# Altium footprint library WANGYU92100PcbLib.PcbLib: 392 footprints (part 7 of 25)
Each footprint in its own frame and in the unit in brackets; x right, y up, seen from the top. Pads: shape width x height; smd on the part's side, far side on the other; paste and mask are expansions set on the pad; w line width, h text height; cw(c..) or ccw(c..) is an arc to the next point about the centre after c.
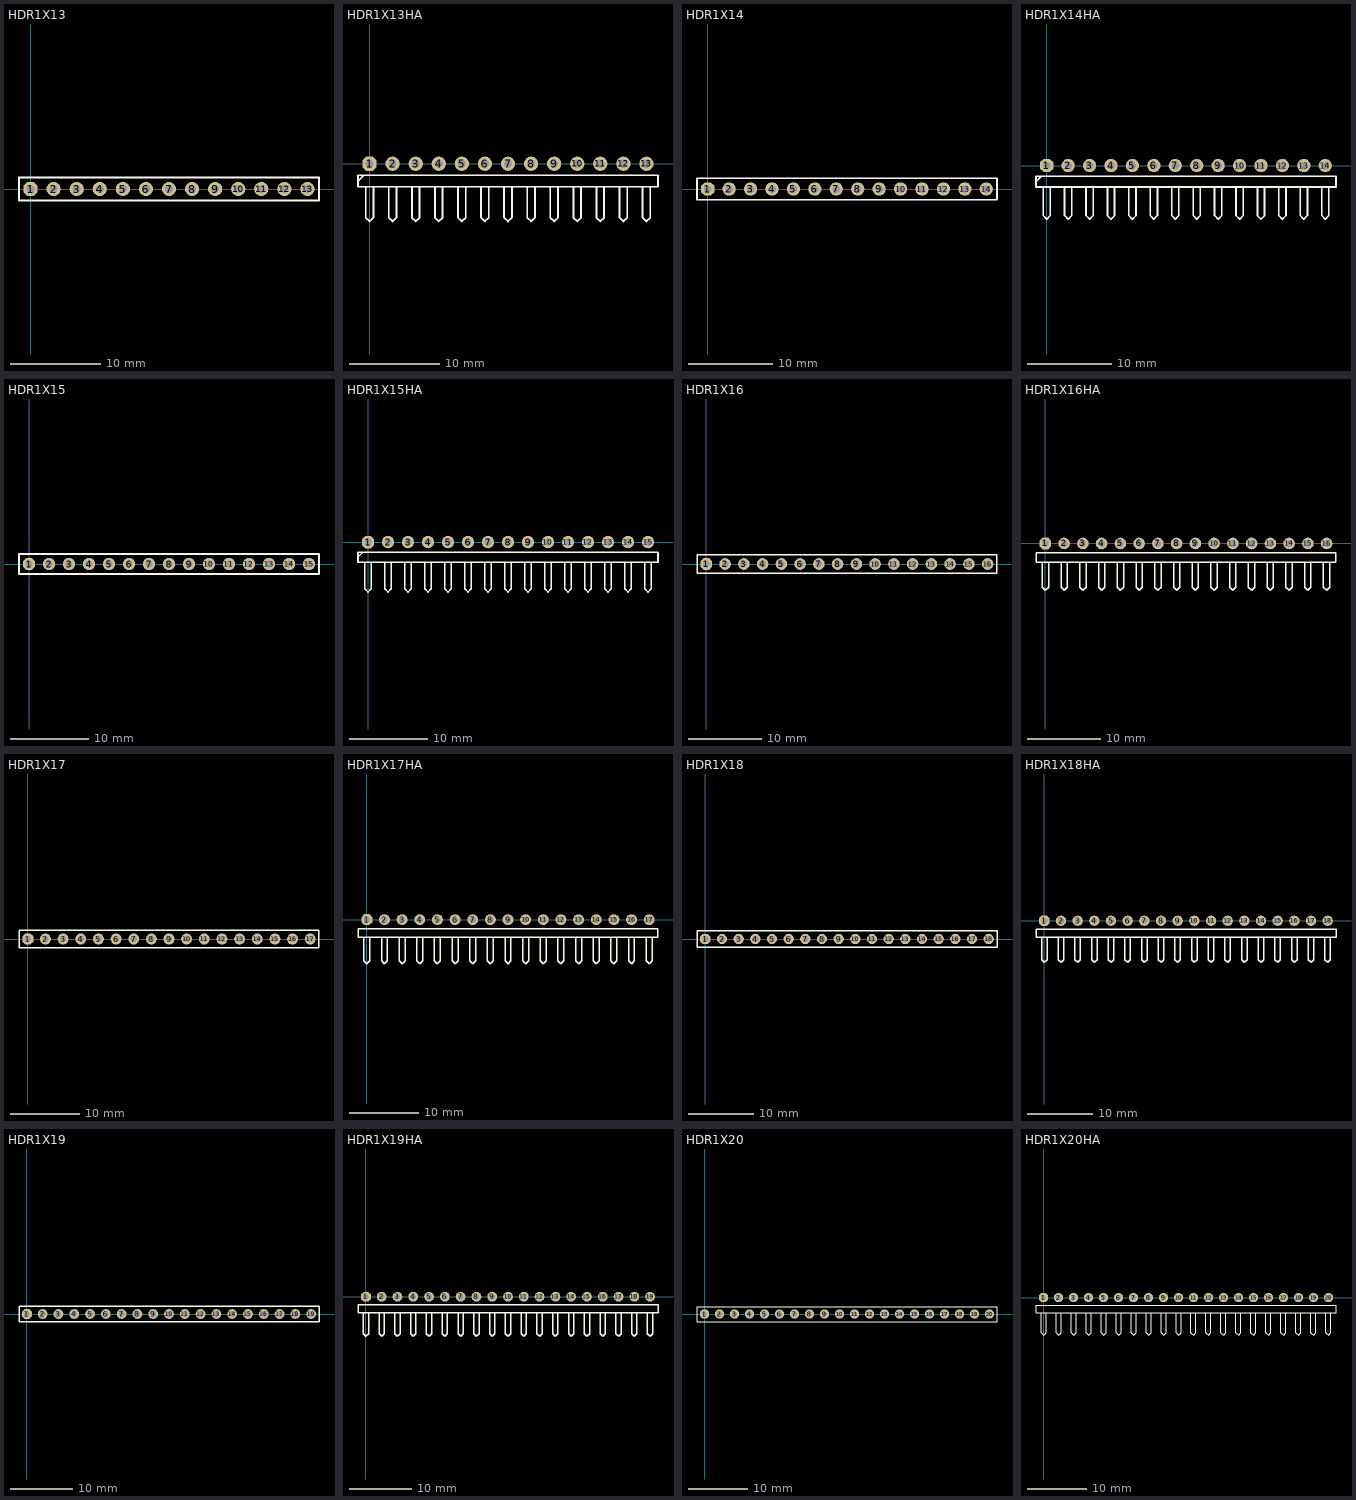
[diagram p6: the footprints below, top view; thin cyan lines are the x and y axes]

## HDR1X13 [mil]
pads (13):
  oct 62x62 hole 35: 1(0,0)
  round 62 hole 35: 2(100,0) 3(200,0) 4(300,0) 5(400,0) 6(500,0) 7(600,0) 8(700,0) 9(800,0) 10(900,0) 11(1000,0) 12(1100,0) 13(1200,0)
Top Overlay:
  lines w8: -50,-50 1250,-50 1250,50 25,50 -50,50 -50,-50

## HDR1X13HA [mil]
pads (13):
  oct 62x62 hole 35: 1(0,0)
  round 62 hole 35: 2(100,0) 3(200,0) 4(300,0) 5(400,0) 6(500,0) 7(600,0) 8(700,0) 9(800,0) 10(900,0) 11(1000,0) 12(1100,0) 13(1200,0)
Top Overlay:
  lines w8: -50,-75 -25,-50 ; -16.67,-100 -16.67,-233.33 0,-250 16.67,-233.33 16.67,-100 ; 83.33,-100 83.33,-233.33 100,-250 116.67,-233.33 116.67,-100 ; 183.33,-100 183.33,-233.33 200,-250 216.67,-233.33 216.67,-100 ; 283.33,-100 283.33,-233.33 300,-250 316.67,-233.33 316.67,-100 ; 383.33,-100 383.33,-233.33 400,-250 416.67,-233.33 416.67,-100 ; 483.33,-100 483.33,-233.33 500,-250 516.67,-233.33 516.67,-100 ; 583.33,-100 583.33,-233.33 600,-250 616.67,-233.33 616.67,-100 ; 683.33,-100 683.33,-233.33 700,-250 716.67,-233.33 716.67,-100 ; 783.33,-100 783.33,-233.33 800,-250 816.67,-233.33 816.67,-100 ; 883.33,-100 883.33,-233.33 900,-250 916.67,-233.33 916.67,-100 ; 983.33,-100 983.33,-233.33 1000,-250 1016.67,-233.33 1016.67,-100 ; 1083.33,-100 1083.33,-233.33 1100,-250 1116.67,-233.33 1116.67,-100 ; 1183.33,-100 1183.33,-233.33 1200,-250 1216.67,-233.33 1216.67,-100 ; -50,-100 -50,-50 25,-50 1250,-50 1250,-100 -50,-100

## HDR1X14 [mil]
pads (14):
  oct 62x62 hole 35: 1(0,0)
  round 62 hole 35: 2(100,0) 3(200,0) 4(300,0) 5(400,0) 6(500,0) 7(600,0) 8(700,0) 9(800,0) 10(900,0) 11(1000,0) 12(1100,0) 13(1200,0) 14(1300,0)
Top Overlay:
  lines w8: -50,-50 1350,-50 1350,50 25,50 -50,50 -50,-50

## HDR1X14HA [mil]
pads (14):
  oct 62x62 hole 35: 1(0,0)
  round 62 hole 35: 2(100,0) 3(200,0) 4(300,0) 5(400,0) 6(500,0) 7(600,0) 8(700,0) 9(800,0) 10(900,0) 11(1000,0) 12(1100,0) 13(1200,0) 14(1300,0)
Top Overlay:
  lines w8: -50,-75 -25,-50 ; -16.67,-100 -16.67,-233.33 0,-250 16.67,-233.33 16.67,-100 ; 83.33,-100 83.33,-233.33 100,-250 116.67,-233.33 116.67,-100 ; 183.33,-100 183.33,-233.33 200,-250 216.67,-233.33 216.67,-100 ; 283.33,-100 283.33,-233.33 300,-250 316.67,-233.33 316.67,-100 ; 383.33,-100 383.33,-233.33 400,-250 416.67,-233.33 416.67,-100 ; 483.33,-100 483.33,-233.33 500,-250 516.67,-233.33 516.67,-100 ; 583.33,-100 583.33,-233.33 600,-250 616.67,-233.33 616.67,-100 ; 683.33,-100 683.33,-233.33 700,-250 716.67,-233.33 716.67,-100 ; 783.33,-100 783.33,-233.33 800,-250 816.67,-233.33 816.67,-100 ; 883.33,-100 883.33,-233.33 900,-250 916.67,-233.33 916.67,-100 ; 983.33,-100 983.33,-233.33 1000,-250 1016.67,-233.33 1016.67,-100 ; 1083.33,-100 1083.33,-233.33 1100,-250 1116.67,-233.33 1116.67,-100 ; 1183.33,-100 1183.33,-233.33 1200,-250 1216.67,-233.33 1216.67,-100 ; 1283.33,-100 1283.33,-233.33 1300,-250 1316.67,-233.33 1316.67,-100 ; -50,-100 1350,-100 1350,-50 25,-50 -50,-50 -50,-100

## HDR1X15 [mil]
pads (15):
  oct 62x62 hole 35: 1(0,0)
  round 62 hole 35: 2(100,0) 3(200,0) 4(300,0) 5(400,0) 6(500,0) 7(600,0) 8(700,0) 9(800,0) 10(900,0) 11(1000,0) 12(1100,0) 13(1200,0) 14(1300,0) 15(1400,0)
Top Overlay:
  lines w8: -50,-50 1450,-50 1450,50 25,50 -50,50 -50,-50

## HDR1X15HA [mil]
pads (15):
  oct 62x62 hole 35: 1(0,0)
  round 62 hole 35: 2(100,0) 3(200,0) 4(300,0) 5(400,0) 6(500,0) 7(600,0) 8(700,0) 9(800,0) 10(900,0) 11(1000,0) 12(1100,0) 13(1200,0) 14(1300,0) 15(1400,0)
Top Overlay:
  lines w8: -50,-75 -25,-50 ; -16.67,-100 -16.67,-233.33 0,-250 16.67,-233.33 16.67,-100 ; 83.33,-100 83.33,-233.33 100,-250 116.67,-233.33 116.67,-100 ; 183.33,-100 183.33,-233.33 200,-250 216.67,-233.33 216.67,-100 ; 283.33,-100 283.33,-233.33 300,-250 316.67,-233.33 316.67,-100 ; 383.33,-100 383.33,-233.33 400,-250 416.67,-233.33 416.67,-100 ; 483.33,-100 483.33,-233.33 500,-250 516.67,-233.33 516.67,-100 ; 583.33,-100 583.33,-233.33 600,-250 616.67,-233.33 616.67,-100 ; 683.33,-100 683.33,-233.33 700,-250 716.67,-233.33 716.67,-100 ; 783.33,-100 783.33,-233.33 800,-250 816.67,-233.33 816.67,-100 ; 883.33,-100 883.33,-233.33 900,-250 916.67,-233.33 916.67,-100 ; 983.33,-100 983.33,-233.33 1000,-250 1016.67,-233.33 1016.67,-100 ; 1083.33,-100 1083.33,-233.33 1100,-250 1116.67,-233.33 1116.67,-100 ; 1183.33,-100 1183.33,-233.33 1200,-250 1216.67,-233.33 1216.67,-100 ; 1283.33,-100 1283.33,-233.33 1300,-250 1316.67,-233.33 1316.67,-100 ; 1383.33,-100 1383.33,-233.33 1400,-250 1416.67,-233.33 1416.67,-100 ; -50,-100 1450,-100 1450,-50 25,-50 -50,-50 -50,-100

## HDR1X16 [mil]
pads (16):
  oct 62x62 hole 35: 1(0,0)
  round 62 hole 35: 2(100,0) 3(200,0) 4(300,0) 5(400,0) 6(500,0) 7(600,0) 8(700,0) 9(800,0) 10(900,0) 11(1000,0) 12(1100,0) 13(1200,0) 14(1300,0) 15(1400,0) 16(1500,0)
Top Overlay:
  lines w8: -50,-50 -50,50 25,50 1550,50 1550,-50 -50,-50

## HDR1X16HA [mil]
pads (16):
  oct 62x62 hole 35: 1(0,0)
  round 62 hole 35: 2(100,0) 3(200,0) 4(300,0) 5(400,0) 6(500,0) 7(600,0) 8(700,0) 9(800,0) 10(900,0) 11(1000,0) 12(1100,0) 13(1200,0) 14(1300,0) 15(1400,0) 16(1500,0)
Top Overlay:
  lines w8: -16.67,-100 -16.67,-233.33 0,-250 16.67,-233.33 16.67,-100 ; 83.33,-100 83.33,-233.33 100,-250 116.67,-233.33 116.67,-100 ; 183.33,-100 183.33,-233.33 200,-250 216.67,-233.33 216.67,-100 ; 283.33,-100 283.33,-233.33 300,-250 316.67,-233.33 316.67,-100 ; 383.33,-100 383.33,-233.33 400,-250 416.67,-233.33 416.67,-100 ; 483.33,-100 483.33,-233.33 500,-250 516.67,-233.33 516.67,-100 ; 583.33,-100 583.33,-233.33 600,-250 616.67,-233.33 616.67,-100 ; 683.33,-100 683.33,-233.33 700,-250 716.67,-233.33 716.67,-100 ; 783.33,-100 783.33,-233.33 800,-250 816.67,-233.33 816.67,-100 ; 883.33,-100 883.33,-233.33 900,-250 916.67,-233.33 916.67,-100 ; 983.33,-100 983.33,-233.33 1000,-250 1016.67,-233.33 1016.67,-100 ; 1083.33,-100 1083.33,-233.33 1100,-250 1116.67,-233.33 1116.67,-100 ; 1183.33,-100 1183.33,-233.33 1200,-250 1216.67,-233.33 1216.67,-100 ; 1283.33,-100 1283.33,-233.33 1300,-250 1316.67,-233.33 1316.67,-100 ; 1383.33,-100 1383.33,-233.33 1400,-250 1416.67,-233.33 1416.67,-100 ; 1483.33,-100 1483.33,-233.33 1500,-250 1516.67,-233.33 1516.67,-100 ; -50,-100 1550,-100 1550,-50 25,-50 -50,-50 -50,-100

## HDR1X17 [mil]
pads (17):
  oct 62x62 hole 35: 1(0,0)
  round 62 hole 35: 2(100,0) 3(200,0) 4(300,0) 5(400,0) 6(500,0) 7(600,0) 8(700,0) 9(800,0) 10(900,0) 11(1000,0) 12(1100,0) 13(1200,0) 14(1300,0) 15(1400,0) 16(1500,0) 17(1600,0)
Top Overlay:
  lines w8: -50,-50 1650,-50 1650,50 25,50 -50,50 -50,-50

## HDR1X17HA [mil]
pads (17):
  oct 62x62 hole 35: 1(0,0)
  round 62 hole 35: 2(100,0) 3(200,0) 4(300,0) 5(400,0) 6(500,0) 7(600,0) 8(700,0) 9(800,0) 10(900,0) 11(1000,0) 12(1100,0) 13(1200,0) 14(1300,0) 15(1400,0) 16(1500,0) 17(1600,0)
Top Overlay:
  lines w8: -16.67,-100 -16.67,-233.33 0,-250 16.67,-233.33 16.67,-100 ; 83.33,-100 83.33,-233.33 100,-250 116.67,-233.33 116.67,-100 ; 183.33,-100 183.33,-233.33 200,-250 216.67,-233.33 216.67,-100 ; 283.33,-100 283.33,-233.33 300,-250 316.67,-233.33 316.67,-100 ; 383.33,-100 383.33,-233.33 400,-250 416.67,-233.33 416.67,-100 ; 483.33,-100 483.33,-233.33 500,-250 516.67,-233.33 516.67,-100 ; 583.33,-100 583.33,-233.33 600,-250 616.67,-233.33 616.67,-100 ; 683.33,-100 683.33,-233.33 700,-250 716.67,-233.33 716.67,-100 ; 783.33,-100 783.33,-233.33 800,-250 816.67,-233.33 816.67,-100 ; 883.33,-100 883.33,-233.33 900,-250 916.67,-233.33 916.67,-100 ; 983.33,-100 983.33,-233.33 1000,-250 1016.67,-233.33 1016.67,-100 ; 1083.33,-100 1083.33,-233.33 1100,-250 1116.67,-233.33 1116.67,-100 ; 1183.33,-100 1183.33,-233.33 1200,-250 1216.67,-233.33 1216.67,-100 ; 1283.33,-100 1283.33,-233.33 1300,-250 1316.67,-233.33 1316.67,-100 ; 1383.33,-100 1383.33,-233.33 1400,-250 1416.67,-233.33 1416.67,-100 ; 1483.33,-100 1483.33,-233.33 1500,-250 1516.67,-233.33 1516.67,-100 ; 1583.33,-100 1583.33,-233.33 1600,-250 1616.67,-233.33 1616.67,-100 ; -50,-100 -50,-50 25,-50 1650,-50 1650,-100 -50,-100

## HDR1X18 [mil]
pads (18):
  oct 62x62 hole 35: 1(0,0)
  round 62 hole 35: 2(100,0) 3(200,0) 4(300,0) 5(400,0) 6(500,0) 7(600,0) 8(700,0) 9(800,0) 10(900,0) 11(1000,0) 12(1100,0) 13(1200,0) 14(1300,0) 15(1400,0) 16(1500,0) 17(1600,0) 18(1700,0)
Top Overlay:
  lines w8: -50,-50 1750,-50 1750,50 25,50 -50,50 -50,-50

## HDR1X18HA [mil]
pads (18):
  oct 62x62 hole 35: 1(0,0)
  round 62 hole 35: 2(100,0) 3(200,0) 4(300,0) 5(400,0) 6(500,0) 7(600,0) 8(700,0) 9(800,0) 10(900,0) 11(1000,0) 12(1100,0) 13(1200,0) 14(1300,0) 15(1400,0) 16(1500,0) 17(1600,0) 18(1700,0)
Top Overlay:
  lines w8: -16.67,-100 -16.67,-233.33 0,-250 16.67,-233.33 16.67,-100 ; 83.33,-100 83.33,-233.33 100,-250 116.67,-233.33 116.67,-100 ; 183.33,-100 183.33,-233.33 200,-250 216.67,-233.33 216.67,-100 ; 283.33,-100 283.33,-233.33 300,-250 316.67,-233.33 316.67,-100 ; 383.33,-100 383.33,-233.33 400,-250 416.67,-233.33 416.67,-100 ; 483.33,-100 483.33,-233.33 500,-250 516.67,-233.33 516.67,-100 ; 583.33,-100 583.33,-233.33 600,-250 616.67,-233.33 616.67,-100 ; 683.33,-100 683.33,-233.33 700,-250 716.67,-233.33 716.67,-100 ; 783.33,-100 783.33,-233.33 800,-250 816.67,-233.33 816.67,-100 ; 883.33,-100 883.33,-233.33 900,-250 916.67,-233.33 916.67,-100 ; 983.33,-100 983.33,-233.33 1000,-250 1016.67,-233.33 1016.67,-100 ; 1083.33,-100 1083.33,-233.33 1100,-250 1116.67,-233.33 1116.67,-100 ; 1183.33,-100 1183.33,-233.33 1200,-250 1216.67,-233.33 1216.67,-100 ; 1283.33,-100 1283.33,-233.33 1300,-250 1316.67,-233.33 1316.67,-100 ; 1383.33,-100 1383.33,-233.33 1400,-250 1416.67,-233.33 1416.67,-100 ; 1483.33,-100 1483.33,-233.33 1500,-250 1516.67,-233.33 1516.67,-100 ; 1583.33,-100 1583.33,-233.33 1600,-250 1616.67,-233.33 1616.67,-100 ; 1683.33,-100 1683.33,-233.33 1700,-250 1716.67,-233.33 1716.67,-100 ; -50,-100 -50,-50 25,-50 1750,-50 1750,-100 -50,-100

## HDR1X19 [mil]
pads (19):
  oct 62x62 hole 35: 1(0,0)
  round 62 hole 35: 2(100,0) 3(200,0) 4(300,0) 5(400,0) 6(500,0) 7(600,0) 8(700,0) 9(800,0) 10(900,0) 11(1000,0) 12(1100,0) 13(1200,0) 14(1300,0) 15(1400,0) 16(1500,0) 17(1600,0) 18(1700,0) 19(1800,0)
Top Overlay:
  lines w8: 1475,50 1483.33,50 ; -50,-50 1850,-50 1850,50 25,50 -50,50 -50,-50

## HDR1X19HA [mil]
pads (19):
  oct 62x62 hole 35: 1(0,0)
  round 62 hole 35: 2(100,0) 3(200,0) 4(300,0) 5(400,0) 6(500,0) 7(600,0) 8(700,0) 9(800,0) 10(900,0) 11(1000,0) 12(1100,0) 13(1200,0) 14(1300,0) 15(1400,0) 16(1500,0) 17(1600,0) 18(1700,0) 19(1800,0)
Top Overlay:
  lines w8: -16.67,-100 -16.67,-233.33 0,-250 16.67,-233.33 16.67,-100 ; 83.33,-100 83.33,-233.33 100,-250 116.67,-233.33 116.67,-100 ; 183.33,-100 183.33,-233.33 200,-250 216.67,-233.33 216.67,-100 ; 283.33,-100 283.33,-233.33 300,-250 316.67,-233.33 316.67,-100 ; 383.33,-100 383.33,-233.33 400,-250 416.67,-233.33 416.67,-100 ; 483.33,-100 483.33,-233.33 500,-250 516.67,-233.33 516.67,-100 ; 583.33,-100 583.33,-233.33 600,-250 616.67,-233.33 616.67,-100 ; 683.33,-100 683.33,-233.33 700,-250 716.67,-233.33 716.67,-100 ; 783.33,-100 783.33,-233.33 800,-250 816.67,-233.33 816.67,-100 ; 883.33,-100 883.33,-233.33 900,-250 916.67,-233.33 916.67,-100 ; 983.33,-100 983.33,-233.33 1000,-250 1016.67,-233.33 1016.67,-100 ; 1083.33,-100 1083.33,-233.33 1100,-250 1116.67,-233.33 1116.67,-100 ; 1183.33,-100 1183.33,-233.33 1200,-250 1216.67,-233.33 1216.67,-100 ; 1283.33,-100 1283.33,-233.33 1300,-250 1316.67,-233.33 1316.67,-100 ; 1383.33,-100 1383.33,-233.33 1400,-250 1416.67,-233.33 1416.67,-100 ; 1483.33,-100 1483.33,-233.33 1500,-250 1516.67,-233.33 1516.67,-100 ; 1583.33,-100 1583.33,-233.33 1600,-250 1616.67,-233.33 1616.67,-100 ; 1683.33,-100 1683.33,-233.33 1700,-250 1716.67,-233.33 1716.67,-100 ; 1783.33,-100 1783.33,-233.33 1800,-250 1816.67,-233.33 1816.67,-100 ; -50,-100 -50,-50 25,-50 1850,-50 1850,-100 -50,-100

## HDR1X20 [mil]
pads (20):
  oct 62x62 hole 35: 1(0,0)
  round 62 hole 35: 2(100,0) 3(200,0) 4(300,0) 5(400,0) 6(500,0) 7(600,0) 8(700,0) 9(800,0) 10(900,0) 11(1000,0) 12(1100,0) 13(1200,0) 14(1300,0) 15(1400,0) 16(1500,0) 17(1600,0) 18(1700,0) 19(1800,0) 20(1900,0)
Top Overlay:
  lines w8: -50,-50 -50,50 25,50 1950,50 1950,-50 -50,-50

## HDR1X20HA [mil]
pads (20):
  oct 62x62 hole 35: 1(0,0)
  round 62 hole 35: 2(100,0) 3(200,0) 4(300,0) 5(400,0) 6(500,0) 7(600,0) 8(700,0) 9(800,0) 10(900,0) 11(1000,0) 12(1100,0) 13(1200,0) 14(1300,0) 15(1400,0) 16(1500,0) 17(1600,0) 18(1700,0) 19(1800,0) 20(1900,0)
Top Overlay:
  lines w8: -16.67,-100 -16.67,-233.33 0,-250 16.67,-233.33 16.67,-100 ; 83.33,-100 83.33,-233.33 100,-250 116.67,-233.33 116.67,-100 ; 183.33,-100 183.33,-233.33 200,-250 216.67,-233.33 216.67,-100 ; 283.33,-100 283.33,-233.33 300,-250 316.67,-233.33 316.67,-100 ; 383.33,-100 383.33,-233.33 400,-250 416.67,-233.33 416.67,-100 ; 483.33,-100 483.33,-233.33 500,-250 516.67,-233.33 516.67,-100 ; 583.33,-100 583.33,-233.33 600,-250 616.67,-233.33 616.67,-100 ; 683.33,-100 683.33,-233.33 700,-250 716.67,-233.33 716.67,-100 ; 783.33,-100 783.33,-233.33 800,-250 816.67,-233.33 816.67,-100 ; 883.33,-100 883.33,-233.33 900,-250 916.67,-233.33 916.67,-100 ; 983.33,-100 983.33,-233.33 1000,-250 1016.67,-233.33 1016.67,-100 ; 1083.33,-100 1083.33,-233.33 1100,-250 1116.67,-233.33 1116.67,-100 ; 1183.33,-100 1183.33,-233.33 1200,-250 1216.67,-233.33 1216.67,-100 ; 1283.33,-100 1283.33,-233.33 1300,-250 1316.67,-233.33 1316.67,-100 ; 1383.33,-100 1383.33,-233.33 1400,-250 1416.67,-233.33 1416.67,-100 ; 1483.33,-100 1483.33,-233.33 1500,-250 1516.67,-233.33 1516.67,-100 ; 1583.33,-100 1583.33,-233.33 1600,-250 1616.67,-233.33 1616.67,-100 ; 1683.33,-100 1683.33,-233.33 1700,-250 1716.67,-233.33 1716.67,-100 ; 1783.33,-100 1783.33,-233.33 1800,-250 1816.67,-233.33 1816.67,-100 ; 1883.33,-100 1883.33,-233.33 1900,-250 1916.67,-233.33 1916.67,-100 ; -50,-100 1950,-100 1950,-50 25,-50 -50,-50 -50,-100